# Altium footprint library EButterflyPcbLib.PcbLib: 106 footprints (part 2 of 7)
Each footprint in its own frame and in the unit in brackets; x right, y up, seen from the top. Pads: shape width x height; smd on the part's side, far side on the other; paste and mask are expansions set on the pad; w line width, h text height; cw(c..) or ccw(c..) is an arc to the next point about the centre after c.
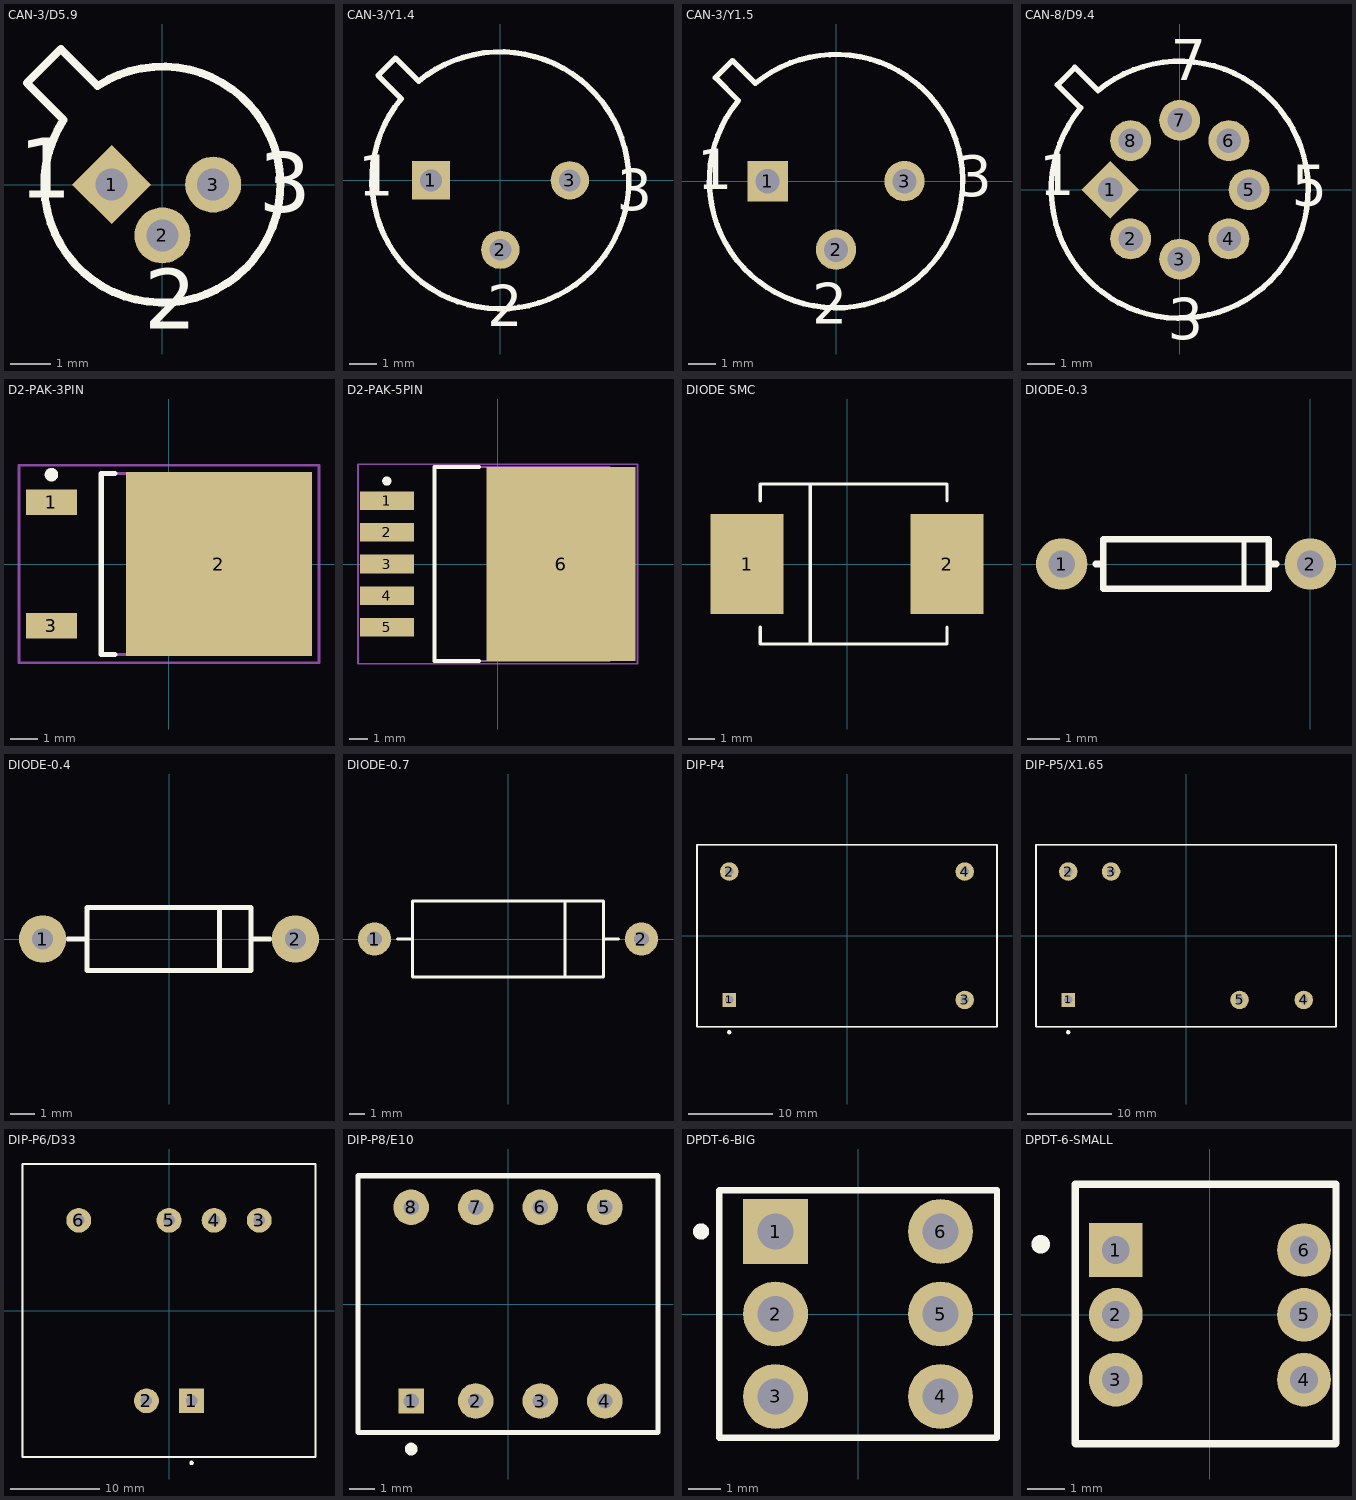
[diagram p1: the footprints below, top view; thin cyan lines are the x and y axes]

## CAN-3/D5.9 [mm]
pads (3):
  rect 1.4x1.4 hole 0.8 rot 45: 1(-1.27,0)
  round 1.4 hole 0.8: 2(0,-1.27) 3(1.27,0)
Top Overlay:
  lines w0.2: -3.386,2.537 -2.537,3.386 -1.618,2.467 cw(c0,0) -2.467,1.618 -3.386,2.537
  text "1" at -3.581,-0.33 h1.5
  text "2" at -0.457,-3.607 h1.5
  text "3" at 2.413,-0.686 h1.5
3D body: height 14, standoff 4, extent -2.799,-2.799 2.799,2.799
3D body: height 4, standoff -2, extent -0.422,-1.666 0.371,-0.874
3D body: height 4, standoff -2, extent 0.874,-0.396 1.666,0.396
3D body: height 4, standoff -2, extent -1.675,-0.396 -0.882,0.397

## CAN-3/Y1.4 [mm]
pads (3):
  rect 1.4x1.4 hole 0.8: 1(-2.54,0)
  round 1.4 hole 0.8: 2(0,-2.54) 3(2.54,0)
Top Overlay:
  lines w0.2: -4.475,3.838 -3.626,2.99 ccw(c0,0) -2.99,3.626 -3.838,4.475 -4.475,3.838
  text "1" at -5.207,-0.559 h1.5
  text "2" at -0.483,-5.334 h1.5
  text "3" at 4.267,-1.092 h1.5
3D body: height 4, standoff -2, extent -0.389,-2.884 0.404,-2.092
3D body: height 4, standoff -2, extent 2.168,-0.389 2.961,0.404
3D body: height 4, standoff -2, extent -2.928,-0.422 -2.135,0.37
3D body: height 14, standoff 4, extent -4.529,-4.555 4.529,4.504

## CAN-3/Y1.5 [mm]
pads (3):
  rect 1.5x1.5 hole 0.9: 1(-2.54,0)
  round 1.5 hole 0.9: 2(0,-2.54) 3(2.54,0)
Top Overlay:
  lines w0.2: -4.475,3.838 -3.626,2.99 ccw(c0,0) -2.99,3.626 -3.838,4.475 -4.475,3.838
  text "1" at -5.156,-0.305 h1.5
  text "2" at -0.889,-5.283 h1.5
  text "3" at 4.47,-0.559 h1.5
3D body: height 14, standoff 4, extent -4.569,-4.544 4.518,4.544
3D body: height 4, standoff -2, extent -2.963,-0.404 -2.17,0.389
3D body: height 4, standoff -2, extent -0.397,-2.945 0.396,-2.152
3D body: height 4, standoff -2, extent 2.127,-0.396 2.919,0.397

## CAN-8/D9.4 [mm]
pads (8):
  rect 1.5x1.5 hole 0.9 rot 45: 1(-2.54,0)
  round 1.5 hole 0.9: 2(-1.796,-1.796) 3(0,-2.54) 4(1.796,-1.796) 5(2.54,0) 6(1.796,1.796) 7(0,2.54) 8(-1.796,1.796)
Top Overlay:
  lines w0.2: -4.475,3.838 -3.626,2.99 ccw(c0,0) -2.99,3.626 -3.838,4.475 -4.475,3.838
  text "7" at -0.33,4.013 h1.5
  text "5" at 4.089,-0.584 h1.5
  text "3" at -0.432,-5.461 h1.5
  text "1" at -5.131,-0.203 h1.5
3D body: height 4, standoff -2, extent -2.192,1.408 -1.4,2.201
3D body: height 4, standoff -2, extent -2.903,-0.395 -2.111,0.397
3D body: height 4, standoff -2, extent -2.192,-2.173 -1.4,-1.381
3D body: height 4, standoff -2, extent 1.415,1.408 2.207,2.201
3D body: height 4, standoff -2, extent -0.389,2.145 0.404,2.937
3D body: height 4, standoff -2, extent 2.151,-0.395 2.944,0.397
3D body: height 4, standoff -2, extent 1.389,-2.199 2.182,-1.406
3D body: height 4, standoff -2, extent -0.439,-2.986 0.353,-2.193
3D body: height 14, standoff 4, extent -4.549,-4.549 4.549,4.549

## D2-PAK-3PIN [mm] "D-PAK, 3-Pads, Body 6.2x6.7mm (max), IPC Medium Density"
height 2.38
pads (3):
  rect 1.9x0.95 smd: 1(-4.35,2.28) 3(-4.35,-2.28)
  rect 6.9x6.8 smd: 2(1.85,0)
Top Overlay:
  circle w0.25: c-4.35,3.305 r0.125
  lines w0.2: -2,-3.35 -2.5,-3.35 -2.5,3.35 -2,3.35
Mechanical 13:
  lines w0.1: -2.5,-3.35 -2.5,3.35 3.7,3.35 3.7,-3.35 -2.5,-3.35
Mechanical 15:
  lines w0.1: -0.5,0 0.5,0 ; 0,-0.5 0,0.5 ; -5.55,-3.65 -5.55,3.65 5.55,3.65 5.55,-3.65 -5.55,-3.65
3D body "D-PAK.STEP": height 2.31, standoff 0, extent -4.826,-3.3 4.424,3.3

## D2-PAK-5PIN [mm] "D2-PAK, 6-Leads, Body 8.6x10.2mm, Pitch 1.7mm, Lead Span 14.1mm, IPC High Density"
height 4.65
pads (6):
  rect 2.9x1 smd: 1(-5.95,3.4) 2(-5.95,1.7) 3(-5.95,0) 4(-5.95,-1.7) 5(-5.95,-3.4)
  rect 8x10.4 smd: 6(3.4,0)
Top Overlay:
  circle w0.25: c-5.95,4.45 r0.125
  lines w0.2: -1,-5.2 -3.4,-5.2 -3.4,5.2 -1,5.2
Mechanical 13:
  lines w0.1: -3.4,-5.2 -3.4,5.2 6,5.2 6,-5.2 -3.4,-5.2
Mechanical 15:
  lines w0.1: -0.5,0 0.5,0 ; 0,-0.5 0,0.5 ; -7.5,-5.35 -7.5,5.35 7.5,5.35 7.5,-5.35 -7.5,-5.35
3D body: height 4.65, standoff 0, extent -3.4,-5.2 6,5.2

## DIODE SMC [mil]
pads (2):
  rect 110x150 smd: 1(-150,0) 2(150,0)
Top Overlay:
  lines w5: -130,-95 -130,-120 150,-120 150,-95 ; -130,95 -130,120 150,120 150,95 ; -55,-120 -55,120
Mechanical 1:
  lines w1: -130,-120 150,-120 ; -130,120 150,120
3D body "DO-214AA.STEP": height 0, standoff -98.43, extent -110.25,-76.78 110.22,76.76

## DIODE-0.3 [mil]
height 78.74
pads (2):
  round 62 hole 32: 1(-300,0) 2(0,0)
Top Overlay:
  lines w5: -163,29 -154,29 ; -145,29 -138,29
  lines w6.06: -80,-30 -80,30
  lines w7.87: -259,0 -250,0 ; -41,0 -50,0 ; -50,0 -50,-30 -250,-30 -250,30 -50,30 -50,0

## DIODE-0.4 [mm]
pads (2):
  round 1.9 hole 0.85: 1(-5.08,0) 2(5.08,0)
Top Overlay:
  lines w0.2: -4.064,0 -3.302,0 ; 2.032,-1.27 2.032,1.27 ; 3.302,0 4.064,0 ; -3.302,-1.27 -3.302,1.27 3.302,1.27 3.302,-1.27 -3.302,-1.27
3D body "DO-41.STEP": height 2, standoff -3.3, extent -5.53,-1.3 5.53,1.3

## DIODE-0.7 [mm]
pads (2):
  round 2.2 hole 1: 1(-8.89,0) 2(8.89,0)
Top Overlay:
  lines w0.2: -7.366,0 -6.35,0 ; 3.81,-2.54 3.81,2.54 ; 6.35,0 7.366,0 ; -6.35,-2.54 -6.35,2.54 6.35,2.54 6.35,-2.54 -6.35,-2.54
3D body "DO-41Z.STEP": height 2, standoff -3.3, extent -5.53,-1.3 5.53,1.3

## DIP-P4 [mm] "DIP; 4 Round Pins; Row Space 27.94 mm; Pitch 15.24 mm"
height 14
pads (4):
  rect 1.65x1.65 hole 1: 1(-13.97,-7.62)
  round 2.2 hole 1: 2(-13.97,7.62) 3(13.97,-7.62) 4(13.97,7.62)
Top Overlay:
  circle w0.25: c-13.97,-11.45 r0.125
  lines w0.2: -17.8,-10.8 -17.8,10.8 17.8,10.8 17.8,-10.8 -17.8,-10.8
Mechanical 13:
  lines w0.1: -17.8,-10.8 -17.8,10.8 17.8,10.8 17.8,-10.8 -17.8,-10.8
3D body: height 14, standoff 0, extent -17.8,-10.8 17.8,10.8

## DIP-P5/X1.65 [mm] "DIP; 5 Round Pins; Row Space 15.24 mm; Pitch 2.54 mm"
height 14
pads (5):
  rect 1.65x1.65 hole 1: 1(-13.97,-7.62)
  round 2.2 hole 1: 2(-13.97,7.62) 3(-8.89,7.62) 4(13.97,-7.62) 5(6.35,-7.62)
Top Overlay:
  circle w0.25: c-13.97,-11.45 r0.125
  lines w0.2: -17.8,-10.8 17.8,-10.8 17.8,10.8 -17.8,10.8 -17.8,-10.8
Mechanical 13:
  lines w0.1: -17.8,-10.8 -17.8,10.8 17.8,10.8 17.8,-10.8 -17.8,-10.8
3D body: height 14, standoff 0, extent -17.8,-10.8 17.8,10.8

## DIP-P6/D33 [mm] "DIP; 6 Round Pins; Row Space 20.32 mm; Pitch 2.54 mm"
height 16.5
pads (6):
  rect 2.8x2.8 hole 1.3: 1(2.54,-10.16)
  round 2.8 hole 1.3: 2(-2.54,-10.16) 3(10.16,10.16) 4(5.08,10.16) 5(0,10.16) 6(-10.16,10.16)
Top Overlay:
  circle w0.25: c2.54,-17.15 r0.125
  lines w0.2: -16.5,-16.5 -16.5,16.5 16.5,16.5 16.5,-16.5 -16.5,-16.5
Mechanical 13:
  lines w0.1: -16.5,-16.5 -16.5,16.5 16.5,16.5 16.5,-16.5 -16.5,-16.5
3D body: height 16.5, standoff 0, extent -16.5,-16.5 16.5,16.5

## DIP-P8/E10 [mm] "Dual-Pole Dual-Throw Relay; 8 Leads"
pads (8):
  rect 1x1 hole 0.6: 1(-3.81,-3.81)
  round 1.4 hole 0.6: 2(-1.27,-3.81) 3(1.27,-3.81) 4(3.81,-3.81) 5(3.81,3.81) 6(1.27,3.81) 7(-1.27,3.81) 8(-3.81,3.81)
Top Overlay:
  circle w0.25: c-3.81,-5.7 r0.125
  lines w0.2: -5.9,-5.05 -5.9,-0.635 -5.9,5.05 5.9,5.05 5.9,-5.05 -5.9,-5.05

## DPDT-6-BIG [mm]
pads (6):
  rect 2x2 hole 1.1: 1(-2.54,2.54)
  round 2 hole 1.1: 2(-2.54,0) 3(-2.54,-2.54) 4(2.54,-2.54) 5(2.54,0) 6(2.54,2.54)
Top Overlay:
  circle w0.25: c-4.836,2.541 r0.125
  lines w0.2: -4.28,-3.81 4.28,-3.81 4.28,3.81 -4.28,3.81 -4.28,-3.81
3D body "SwitchBig.STEP": height 10.5, standoff -2, extent -4,-4 4,4

## DPDT-6-SMALL [mm]
pads (6):
  rect 1.45x1.45 hole 0.75: 1(-2.54,1.75)
  round 1.45 hole 0.75: 2(-2.54,0) 3(-2.54,-1.75) 4(2.54,-1.75) 5(2.54,0) 6(2.54,1.75)
Top Overlay:
  circle w0.25: c-4.57,1.905 r0.125
  lines w0.2: -3.632,-3.472 -3.632,3.528 3.368,3.528 ; -3.622,-3.482 3.378,-3.482 ; 3.404,-3.472 3.404,3.528
3D body "SwitchSmall.STEP": height 10.5, standoff -2, extent -3.5,-3.5 3.5,3.5